# Altium footprint library EE311_footprints.PcbLib: 35 footprints (part 1 of 3)
Each footprint in its own frame and in the unit in brackets; x right, y up, seen from the top. Pads: shape width x height; smd on the part's side, far side on the other; paste and mask are expansions set on the pad; w line width, h text height; cw(c..) or ccw(c..) is an arc to the next point about the centre after c.
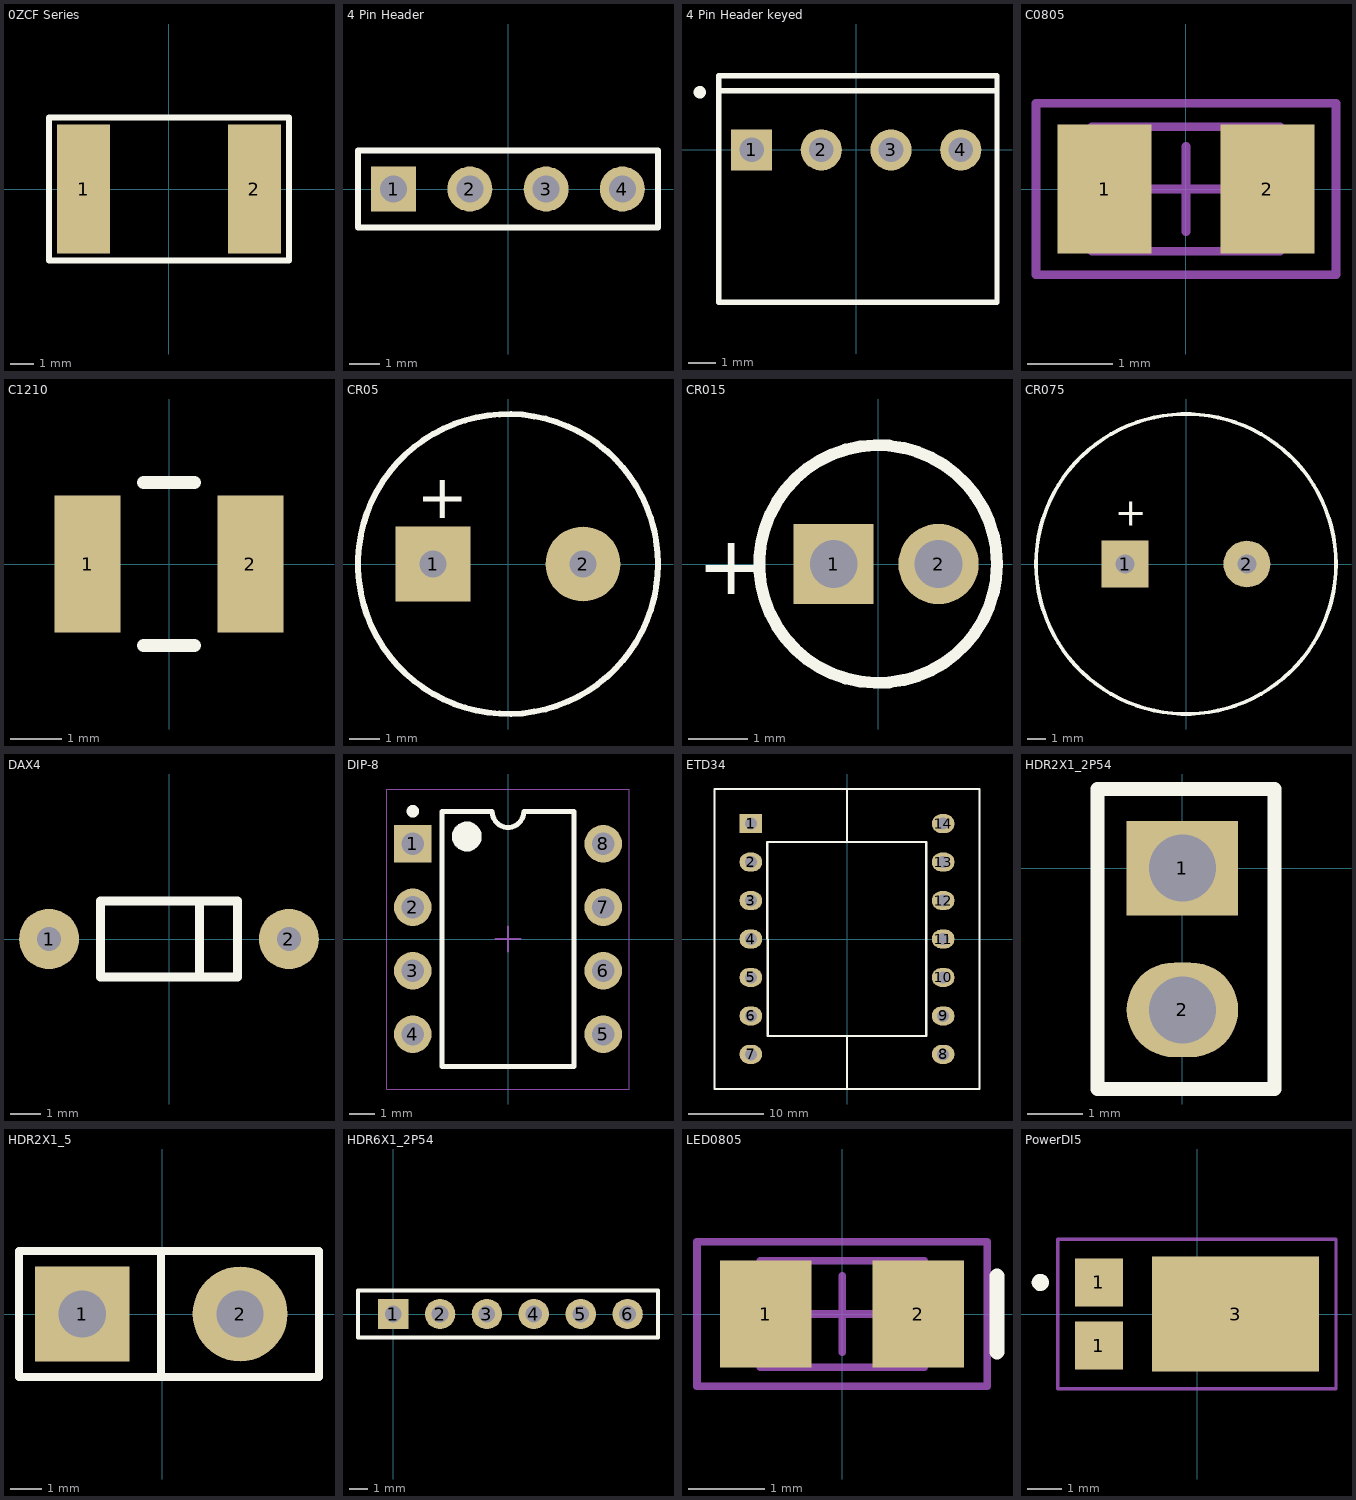
[diagram p0: the footprints below, top view; thin cyan lines are the x and y axes]

## 0ZCF Series [mm] "0ZCF Series SMD Reset Fuse"
pads (2):
  rect 2.3x5.6 smd: 1(-3.7,0) 2(3.7,0)
Top Overlay:
  lines w0.254: -5.2,-3.1 -5.2,3.1 5.2,3.1 5.2,-3.1 -5.2,-3.1
3D body "0ZCF.step": height 1.15, standoff 0, extent -3.988,-2.72 3.988,2.72

## 4 Pin Header [mm] "0.1\" 4 pin header"
pads (4):
  rect 1.5x1.5 hole 0.9: 1(-3.81,0)
  round 1.5 hole 0.9: 2(-1.27,0) 3(1.27,0) 4(3.81,0)
Top Overlay:
  lines w0.2: -5,-1.28 5,-1.28 5,1.28 -5,1.28 -5,-1.28
3D body "DS1021-1x4S61.stp": height 8.6, standoff -3, extent -5.08,-1.27 5.08,1.27

## 4 Pin Header keyed [mm] "0.1\" 4 pin header"
pads (4):
  rect 1.5x1.5 hole 0.9: 1(-3.81,0)
  round 1.5 hole 0.9: 2(-1.27,0) 3(1.27,0) 4(3.81,0)
Top Overlay:
  circle w0.254: c-5.7,2.1 r0.1
  lines w0.2: -4.95,2.15 5.1,2.15 ; -5,-5.55 -5,2.7 5.13,2.7 5.13,-5.55 -5,-5.55
3D body "4 pin header.stp": height 11.75, standoff -1.77, extent -5.03,-5.6 5.13,2.6

## C0805 [mm]
pads (2):
  rect 1.1x1.5 smd: 1(-0.95,0) 2(0.95,0)
Mechanical 13:
  lines w0.1: -1.1,-0.725 1.1,-0.725 1.1,0.725 -1.1,0.725 -1.1,-0.725
Mechanical 15:
  lines w0.1: -0.5,0 0.5,0 ; 0,-0.5 0,0.5 ; -1.75,-1 1.75,-1 1.75,1 -1.75,1 -1.75,-1
3D body: height 1.1, standoff 0, extent -1.1,-0.725 1.1,0.725

## C1210 [mm]
pads (2):
  rect 1.3x2.7 smd: 1(-1.6,0) 2(1.6,0)
Top Overlay:
  lines w0.254: -0.5,-1.6 0.5,-1.6 ; -0.5,1.6 0.5,1.6
3D body "STL@%STL@%STL@%CAP_3225.stp": height 1.24, standoff 0, extent -1.803,-1.397 1.803,1.397

## CR05 [mm]
pads (2):
  rect 2.5x2.5 hole 0.9: 1(-2.5,0)
  round 2.5 hole 0.9: 2(2.5,0)
Top Overlay:
  circle w0.2: c0,0 r5
  text "+" at -3.048,1.524 h1.5

## CR015 [mm]
pads (2):
  rect 1.35x1.35 hole 0.8: 1(-0.75,0)
  round 1.35 hole 0.8: 2(1.016,0)
Top Overlay:
  circle w0.2: c0,0 r2
  text "+" at -3.048,-0.508 h1

## CR075 [mm]
pads (2):
  rect 2.5x2.5 hole 1: 1(-3.25,0)
  round 2.5 hole 1: 2(3.25,0)
Top Overlay:
  circle w0.2: c0,0 r8
  text "+" at -3.81,2.032 h1.5
3D body "STL@%STL@%STL@%U1-GG.stp": height 19.76, standoff -4.98, extent -8.013,-8.001 8.013,8.001

## DAX4 [mm]
pads (2):
  round 2.007 hole 0.8: 1(-4,0) 2(4,0)
Top Overlay:
  lines w0.305: 1.016,-1.27 1.016,1.27 ; -2.286,-1.27 -2.286,1.27 2.286,1.27 2.286,-1.27 -2.286,-1.27

## DIP-8 [mm] "DIP, 8-Leads, Body 10.15x6.6mm, Pitch 2.54mm"
height 5.08
pads (8):
  rect 1.5x1.5 hole 0.9: 1(-3.81,3.81)
  round 1.5 hole 0.9: 2(-3.81,1.27) 3(-3.81,-1.27) 4(-3.81,-3.81) 5(3.81,-3.81) 6(3.81,-1.27) 7(3.81,1.27) 8(3.81,3.81)
Top Overlay:
  circle w0.6: c-1.65,4.1 r0.3
  circle w0.25: c-3.81,5.11 r0.125
  lines w0.2: -2.65,-5.1 2.65,-5.1 2.65,5.1 0.635,5.1 cw(c0,5.1) -0.635,5.1 -2.65,5.1 -2.65,-5.1
Mechanical 15:
  lines w0.05: -4.85,-6 4.85,-6 4.85,6 -4.85,6 -4.85,-6
  lines w0.1: -0.5,0 0.5,0 ; 0,-0.5 0,0.5
3D body "CircuitWorks-DIP8.STEP": height 4.19, standoff -2.67, extent -3.874,-5.715 4,5.715

## ETD34 [mm]
pads (14):
  rect 3x2.5 hole 1.6: 1(-12.7,15.24)
  oval 3x2.5 hole 1.6: 2(-12.7,10.16) 3(-12.7,5.08) 4(-12.7,0) 5(-12.7,-5.08) 6(-12.7,-10.16) 7(-12.7,-15.24) 8(12.7,-15.24) 9(12.7,-10.16) 10(12.7,-5.08) 11(12.7,0) 12(12.7,5.08) 13(12.7,10.16) 14(12.7,15.24)
Top Overlay:
  lines w0.305: -10.541,12.8 -10.45,-12.8 10.45,-12.8 10.45,12.8 -10.45,12.8 ; 0,-19.8 0,-12.8 ; 0,12.8 0,19.8 ; 17.5,-19.812 17.5,19.812 ; 17.5,-19.8 -17.5,-19.8 -17.5,19.8 17.5,19.8

## HDR2X1_2P54 [mm] "Polarised Header 2 way"
height 8.5
pads (2):
  rect 2x1.7 hole 1.2: 1(0,0)
  oval 2x1.7 hole 1.2: 2(0,-2.54)
Top Overlay:
  lines w0.254: -1.524,-3.96 -1.524,1.42 1.651,1.42 1.651,-3.96 -1.524,-3.96

## HDR2X1_5 [mm]
pads (2):
  rect 3x3 hole 1.5: 1(-2.54,0)
  round 3 hole 1.5: 2(2.46,0)
Top Overlay:
  lines w0.254: -0.04,-2 -0.04,2 ; -4.54,-2 4.96,-2 4.96,2 -4.54,2 -4.54,-2

## HDR6X1_2P54 [mil] "Connector for BLE"
pads (6):
  rect 65x65 hole 35.43: 1(0,0)
  round 65 hole 35.43: 2(100,0) 3(200,0) 4(300,0) 5(400,0) 6(500,0)
Top Overlay:
  lines w7.87: -75,-50 -75,50 565,50 565,-50 -75,-50
3D body "6x1, Male, Header, 0.1in pitch.stp": height 334.06, standoff -105.94, extent -55,-50 545,50

## LED0805 [mm]
pads (2):
  rect 1.2x1.4 smd: 1(-1,0) 2(1,0)
Top Overlay:
  lines w0.2: 2.032,-0.5 2.032,0.5
Mechanical 13:
  lines w0.1: -1.075,-0.7 -1.075,0.7 1.075,0.7 1.075,-0.7 -1.075,-0.7
Mechanical 15:
  lines w0.1: -0.5,0 0.5,0 ; 0,-0.5 0,0.5 ; -1.905,-0.95 -1.905,0.95 1.905,0.95 1.905,-0.95 -1.905,-0.95
3D body: height 0.65, standoff 0, extent -1.075,-0.7 1.075,0.7

## PowerDI5 [mm]
height 1.1
pads (3):
  rect 1.4x1.39 smd: 1(-2.862,-0.92) 1(-2.862,0.92)
  rect 4.86x3.36 smd: 3(1.12,0)
Top Overlay:
  circle w0.25: c-4.572,0.92 r0.125
Mechanical 15:
  lines w0.1: -0.492,0 0.508,0 ; 0.008,-0.5 0.008,0.5 ; -4.062,-2.18 4.05,-2.18 4.05,2.18 -4.062,2.18 -4.062,-2.18